# Altium schematic symbol library IC Memories.SchLib: 18 symbols
Pins are listed as number, name and electrical type; pins without a type are passive.

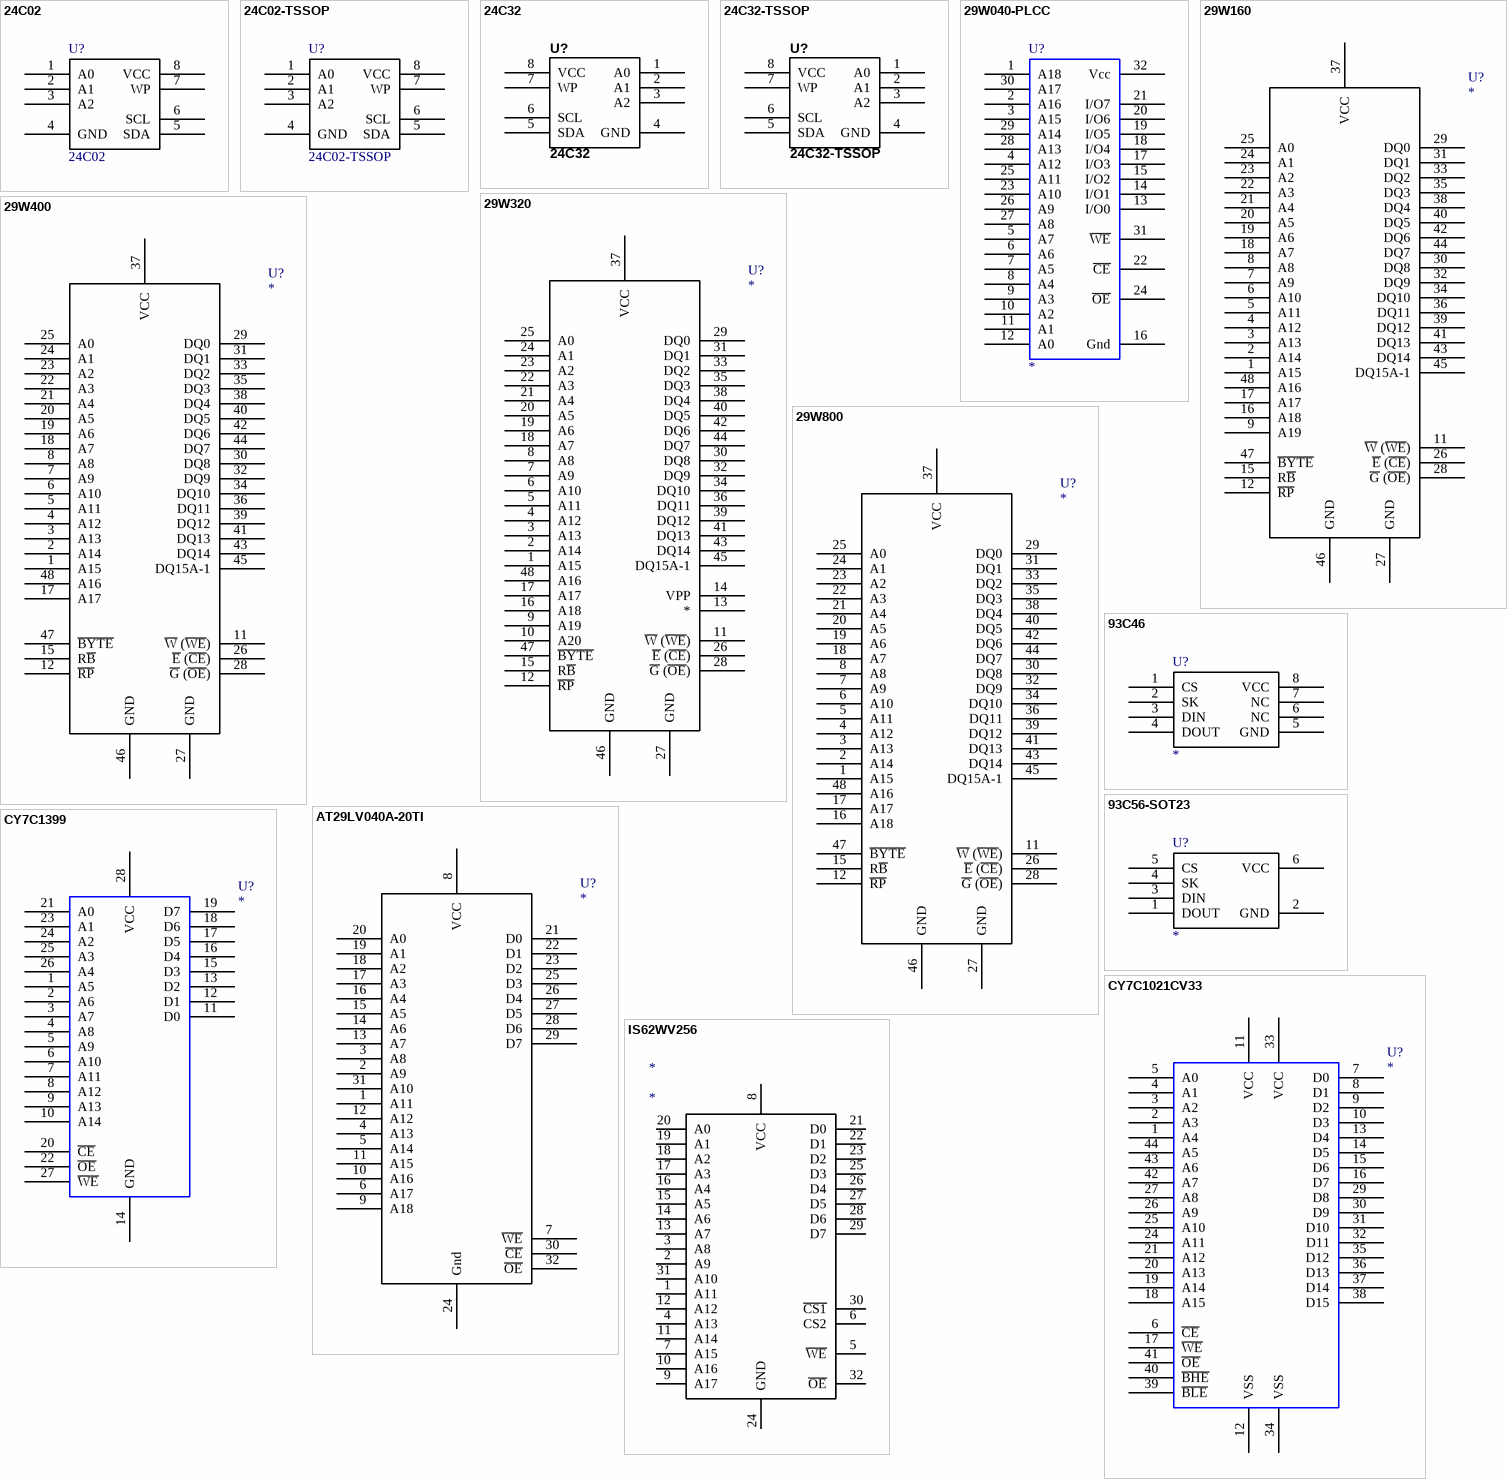
[diagram p0: symbols 24C02 to IS62WV256]

## 24C02
designator U?
I2C EEPROM 256b X 8
footprint SO8
pins: 1 A0, 2 A1, 3 A2, 4 GND, 5 SDA, 6 SCL, 7 WP, 8 VCC

## 24C02-TSSOP
designator U?
I2C EEPROM 256b X 8; Supplier 1: Digi-Key; Supplier Part Number 1: 497-4926-1-ND
footprint TSSOP8
pins: 1 A0, 2 A1, 3 A2, 4 GND, 5 SDA, 6 SCL, 7 WP, 8 VCC

## 24C32
designator U?
I2C EEPROM 4K X 8; Part Field 1: STM; Manufacturer Part Number: M24C32-WMN6TP; Manufacturer: STMicroelectronics; Description: IC EEPROM 32KBIT 400KHZ 8SOIC; Reel: U3; Part Field 2: M24C32-WMN6TP; Part Field 3: Digi-Key; Part Field 4: 497-5027-6-ND; Part Field 5: SERIAL I2C EEPROM; Supplier 1: Digi-Key; Supplier Part Number 1: 497-5027-2-ND
footprint SO8
pins: 1 A0, 2 A1, 3 A2, 4 GND, 5 SDA, 6 SCL, 7 WP, 8 VCC

## 24C32-TSSOP
designator U?
I2C EEPROM 4K X 8; Part Field 1: STM; Manufacturer Part Number: M24C32-WMN6TP; Manufacturer: STMicroelectronics; Description: IC EEPROM 32KBIT 400KHZ 8SOIC; Reel: U3; Part Field 2: M24C32-WMN6TP; Part Field 3: Digi-Key; Part Field 4: 497-5027-6-ND; Part Field 5: SERIAL I2C EEPROM; Supplier 1: Digi-Key; Supplier Part Number 1: 497-8642-1-ND
footprint SO8
pins: 1 A0, 2 A1, 3 A2, 4 GND, 5 SDA, 6 SCL, 7 WP, 8 VCC

## 29W040-PLCC
designator U?
FLASH 512K x 8 PLCC32; Text Field1: Atmel; Text Field2: AT29LV040-20TC; Text Field3: Avnet; Text Field4: AT29LV040-20TC
footprint PLCC32
footprint PLCC32S
pins: 1 A18, 2 A16, 3 A15, 4 A12, 5 A7, 6 A6, 7 A5, 8 A4, 9 A3, 10 A2, 11 A1, 12 A0, 13 I/O0, 14 I/O1, 15 I/O2, 16 Gnd, 17 I/O3, 18 I/O4, 19 I/O5, 20 I/O6, 21 I/O7, 22 ~{CE}, 23 A10, 24 ~{OE}, 25 A11, 26 A9, 27 A8, 28 A13, 29 A14, 30 A17, 31 ~{WE}, 32 Vcc

## 29W160
designator U?
16MBIT FLASH; Text Field1: ST; Text Field2: M29W160DB90N1; Text Field3: Avnet; Text Field5: TSOP48; Text Field6: 2.97; Text Field4: M29W160DB90N1; NI?: *; O?: *; Section:: *
footprint TSOP48
pins: 1 A15, 2 A14, 3 A13, 4 A12, 5 A11, 6 A10, 7 A9, 8 A8, 9 A19, 11 ~{W} (~{WE}), 12 ~{RP}, 15 R~{B}, 16 A18, 17 A17, 18 A7, 19 A6, 20 A5, 21 A4, 22 A3, 23 A2, 24 A1, 25 A0, 26 ~{E} (~{CE}), 27 GND, 28 ~{G} (~{OE}), 29 DQ0, 30 DQ8, 31 DQ1, 32 DQ9, 33 DQ2, 34 DQ10, 35 DQ3, 36 DQ11, 37 VCC, 38 DQ4, 39 DQ12, 40 DQ5, 41 DQ13, 42 DQ6, 43 DQ14, 44 DQ7, 45 DQ15A-1, 46 GND, 47 ~{BYTE}, 48 A16

## 29W320
designator U?
32 MBIT FLASH; Text Field1: ST; Text Field2: M29W160DB90N1; Text Field3: Avnet; Text Field5: TSOP48; Text Field6: 2.97; Text Field4: M29W160DB90N1; NI?: *; O?: *; Section:: *
footprint TSOP48
pins: 1 A15, 2 A14, 3 A13, 4 A12, 5 A11, 6 A10, 7 A9, 8 A8, 9 A19, 10 A20, 11 ~{W} (~{WE}), 12 ~{RP}, 13 *, 14 VPP, 15 R~{B}, 16 A18, 17 A17, 18 A7, 19 A6, 20 A5, 21 A4, 22 A3, 23 A2, 24 A1, 25 A0, 26 ~{E} (~{CE}), 27 GND, 28 ~{G} (~{OE}), 29 DQ0, 30 DQ8, 31 DQ1, 32 DQ9, 33 DQ2, 34 DQ10, 35 DQ3, 36 DQ11, 37 VCC, 38 DQ4, 39 DQ12, 40 DQ5, 41 DQ13, 42 DQ6, 43 DQ14, 44 DQ7, 45 DQ15A-1, 46 GND, 47 ~{BYTE}, 48 A16

## 29W400
designator U?
4MBIT FLASH; Text Field1: ST; Text Field2: M29W160DB90N1; Text Field3: Avnet; Text Field5: TSOP48; Text Field6: 2.97; Text Field4: M29W160DB90N1; NI?: *; O?: *; Section:: *
footprint TSOP48
pins: 1 A15, 2 A14, 3 A13, 4 A12, 5 A11, 6 A10, 7 A9, 8 A8, 11 ~{W} (~{WE}), 12 ~{RP}, 15 R~{B}, 17 A17, 18 A7, 19 A6, 20 A5, 21 A4, 22 A3, 23 A2, 24 A1, 25 A0, 26 ~{E} (~{CE}), 27 GND, 28 ~{G} (~{OE}), 29 DQ0, 30 DQ8, 31 DQ1, 32 DQ9, 33 DQ2, 34 DQ10, 35 DQ3, 36 DQ11, 37 VCC, 38 DQ4, 39 DQ12, 40 DQ5, 41 DQ13, 42 DQ6, 43 DQ14, 44 DQ7, 45 DQ15A-1, 46 GND, 47 ~{BYTE}, 48 A16

## 29W800
designator U?
8MBIT FLASH; Text Field1: ST; Text Field2: M29W160DB90N1; Text Field3: Avnet; Text Field5: TSOP48; Text Field6: 2.97; Text Field4: M29W160DB90N1; NI?: *; O?: *; Section:: *
footprint TSOP48
pins: 1 A15, 2 A14, 3 A13, 4 A12, 5 A11, 6 A10, 7 A9, 8 A8, 11 ~{W} (~{WE}), 12 ~{RP}, 15 R~{B}, 16 A18, 17 A17, 18 A7, 19 A6, 20 A5, 21 A4, 22 A3, 23 A2, 24 A1, 25 A0, 26 ~{E} (~{CE}), 27 GND, 28 ~{G} (~{OE}), 29 DQ0, 30 DQ8, 31 DQ1, 32 DQ9, 33 DQ2, 34 DQ10, 35 DQ3, 36 DQ11, 37 VCC, 38 DQ4, 39 DQ12, 40 DQ5, 41 DQ13, 42 DQ6, 43 DQ14, 44 DQ7, 45 DQ15A-1, 46 GND, 47 ~{BYTE}, 48 A16

## 93C46
designator U?
MICROWIRE EEPROM
footprint SO8
pins: 1 CS, 2 SK, 3 DIN, 4 DOUT, 5 GND, 6 NC, 7 NC, 8 VCC

## 93C56-SOT23
designator U?
MICROWIRE EEPROM
footprint SOT23-6
pins: 1 DOUT, 2 GND, 3 DIN, 4 SK, 5 CS, 6 VCC

## AT29LV040A-20TI
designator U?
IC 512K x 8 Flash Memory TSOP-32; Text Field1: Atmel; Text Field2: AT29LV040-20TC; Text Field3: Avnet; Text Field4: AT29LV040-20TC
footprint AT29LV040A-20TI
pins: 1 A11, 2 A9, 3 A8, 4 A13, 5 A14, 6 A17, 7 ~{WE}, 8 VCC, 9 A18, 10 A16, 11 A15, 12 A12, 13 A7, 14 A6, 15 A5, 16 A4, 17 A3, 18 A2, 19 A1, 20 A0, 21 D0, 22 D1, 23 D2, 24 Gnd, 25 D3, 26 D4, 27 D5, 28 D6, 29 D7, 30 ~{CE}, 31 A10, 32 ~{OE}

## CY7C1021CV33
designator U?
STATIC RAM
footprint TSOP44
pins: 1 A4, 2 A3, 3 A2, 4 A1, 5 A0, 6 ~{CE}, 7 D0, 8 D1, 9 D2, 10 D3, 11 VCC, 12 VSS, 13 D4, 14 D5, 15 D6, 16 D7, 17 ~{WE}, 18 A15, 19 A14, 20 A13, 21 A12, 24 A11, 25 A10, 26 A9, 27 A8, 29 D8, 30 D9, 31 D10, 32 D11, 33 VCC, 34 VSS, 35 D12, 36 D13, 37 D14, 38 D15, 39 ~{BLE}, 40 ~{BHE}, 41 ~{OE}, 42 A7, 43 A6, 44 A5

## CY7C1399
designator U?
32K ASYNCHRONOUS SRAM
footprint SOJ28
pins: 1 A5, 2 A6, 3 A7, 4 A8, 5 A9, 6 A10, 7 A11, 8 A12, 9 A13, 10 A14, 11 D0, 12 D1, 13 D2, 14 GND, 15 D3, 16 D4, 17 D5, 18 D6, 19 D7, 20 ~{CE}, 21 A0, 22 ~{OE}, 23 A1, 24 A2, 25 A3, 26 A4, 27 ~{WE}, 28 VCC

## IS62WV256
designator *
footprint TSOP32 (TSSOP, 32-Leads, Body 8.1x18.5mm (max), Pitch 0.50mm, IPC Medium Density)
pins: 1 A11, 2 A9, 3 A8, 4 A13, 5 ~{WE}, 6 CS2, 7 A15, 8 VCC, 9 A17, 10 A16, 11 A14, 12 A12, 13 A7, 14 A6, 15 A5, 16 A4, 17 A3, 18 A2, 19 A1, 20 A0, 21 D0, 22 D1, 23 D2, 24 GND, 25 D3, 26 D4, 27 D5, 28 D6, 29 D7, 30 ~{CS1}, 31 A10, 32 ~{OE}

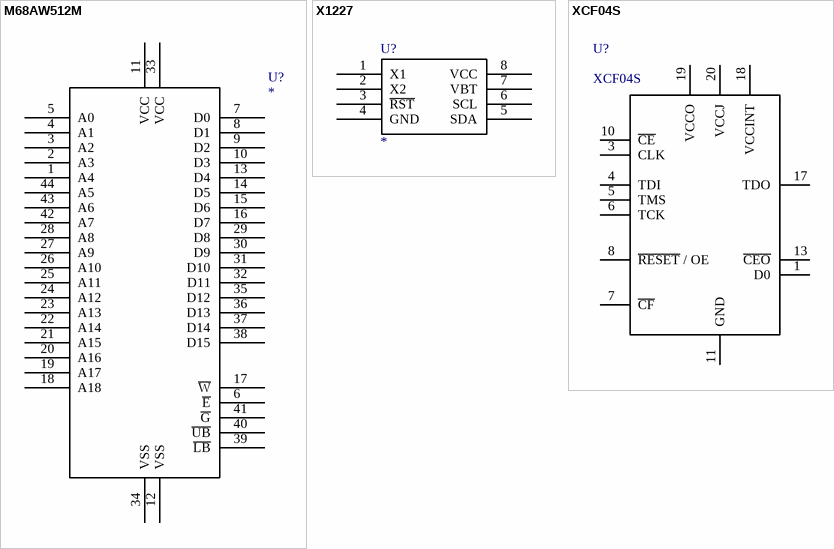
[diagram p1: symbols M68AW512M to XCF04S]

## M68AW512M
designator U?
512K X 16 ASYNCHRONUS SRAM ST MICROELECTRONICS
footprint TSOP44
pins: 1 A4, 2 A3, 3 A2, 4 A1, 5 A0, 6 ~{E}, 7 D0, 8 D1, 9 D2, 10 D3, 11 VCC, 12 VSS, 13 D4, 14 D5, 15 D6, 16 D7, 17 ~{W}, 18 A18, 19 A17, 20 A16, 21 A15, 22 A14, 23 A13, 24 A12, 25 A11, 26 A10, 27 A9, 28 A8, 29 D8, 30 D9, 31 D10, 32 D11, 33 VCC, 34 VSS, 35 D12, 36 D13, 37 D14, 38 D15, 39 ~{LB}, 40 ~{UB}, 41 ~{G}, 42 A7, 43 A6, 44 A5

## X1227
designator U?
REALTIME CLOCK WITH 4KBIT EEPROM  XICOR
footprint SO8
pins: 1 X1, 2 X2, 3 ~{RST}, 4 GND, 5 SDA, 6 SCL, 7 VBT, 8 VCC

## XCF04S
designator U?
XILINX CONFIGURATION ROM; Supplier 1: Digi-Key; Supplier Part Number 1: 122-1288-5-ND
footprint TSSOP20
pins: 1 D0, 3 CLK, 4 TDI, 5 TMS, 6 TCK, 7 ~{CF}, 8 ~{RESET} / OE, 10 ~{CE}, 11 GND, 13 ~{CEO}, 17 TDO, 18 VCCINT, 19 VCCO, 20 VCCJ